# Altium schematic symbol library Schlib1.SchLib: 4 symbols
Pins are listed as number, name and electrical type; pins without a type are passive.

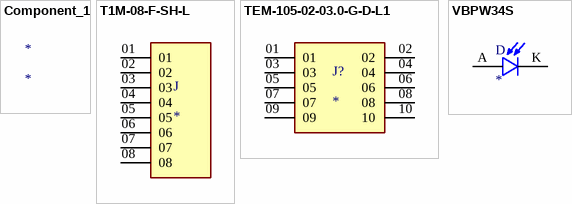
[diagram p0: symbols Component_1 to VBPW34S]

## Component_1
designator *

## T1M-08-F-SH-L
designator J
MF: Samtec Inc.; MP: T1M-08-F-SH-L; Price: None; Availability: Unavailable; Package: None; Value: *
footprint SAMTEC_T1M-08-F-SH-L
pins: 01, 02, 03, 04, 05, 06, 07, 08

## TEM-105-02-03.0-G-D-L1
designator J?
Connector Header Surface Mount 10 position 0.031 (0.80mm); MP: TEM-105-02-03.0-G-D-L1-K-TR; MF: Samtec; Value: *; Check_prices: https://www.snapeda.com/parts/TEM-105-02-03.0-G-D-L1-K-TR/Samtec/view-part/?ref=eda; SnapEDA_Link: https://www.snapeda.com/parts/TEM-105-02-03.0-G-D-L1-K-TR/Samtec/view-part/?ref=snap; Price: None; Availability: In Stock; Purchase-URL: https://pricing.snapeda.com/search/part/TEM-105-02-03.0-G-D-L1-K-TR/?ref=eda; Package: None
footprint SAMTEC_TEM-105-02-03.0-G-D-L1
pins: 01, 02, 03, 04, 05, 06, 07, 08, 09, 10

## VBPW34S
designator D
Photodiode 940nm 100ns 130Â° 2-SMD, Gull Wing; MP: VBPW34S; MF: Vishay; Price: None; Value: *; Package: SMD-2 Vishay; SnapEDA_Link: https://www.snapeda.com/parts/VBPW34S/Vishay%20Semiconductor%20Opto%20Division/view-part/139260/?ref=snap; Availability: Unavailable
footprint XDCR_VBPW34S
pins: A, K C